# Altium footprint library footprints.PcbLib: 26 footprints (part 1 of 2)
Each footprint in its own frame and in the unit in brackets; x right, y up, seen from the top. Pads: shape width x height; smd on the part's side, far side on the other; paste and mask are expansions set on the pad; w line width, h text height; cw(c..) or ccw(c..) is an arc to the next point about the centre after c.
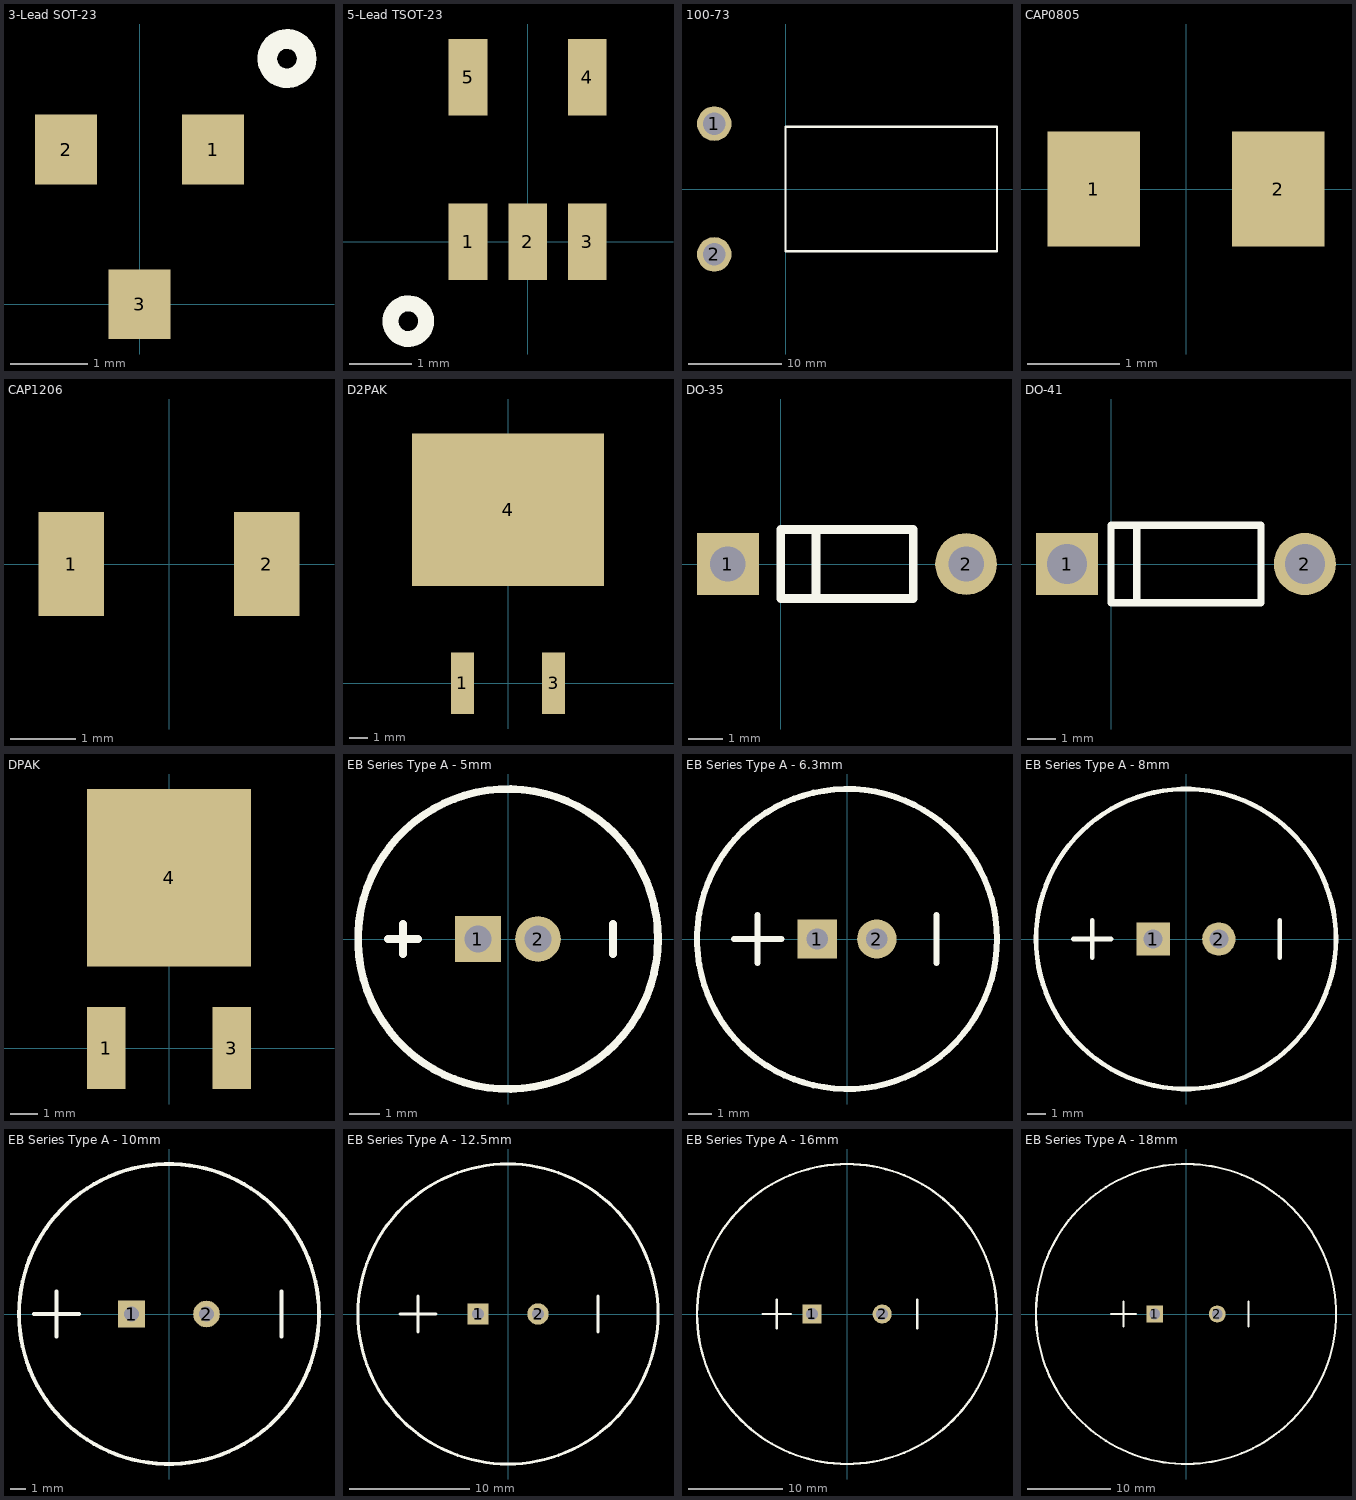
[diagram p0: the footprints below, top view; thin cyan lines are the x and y axes]

## 3-Lead SOT-23 [mm]
height 1.11
pads (3):
  rect 0.8x0.9 smd: 1(0.95,2) 2(-0.95,2) 3(0,0)
Top Overlay:
  circle w0.254: c1.905,3.175 r0.254

## 5-Lead TSOT-23 [mm]
height 0.9
pads (5):
  rect 0.62x1.22 smd: 1(-0.95,0) 2(0,0) 3(0.95,0) 4(0.95,2.62) 5(-0.95,2.62)
Top Overlay:
  circle w0.254: c-1.905,-1.27 r0.284

## 100-73 [mil] "SPST Switch"
height 1152
pads (2):
  round 145 hole 95: 1(-300,275) 2(-300,-275)
Top Overlay:
  lines w10: 0,-262 890,-262 890,262 0,262 0,-262

## CAP0805 [mm]
pads (2):
  rect 1x1.25 smd: 1(-1,0) 2(1,0)

## CAP1206 [mm]
pads (2):
  rect 1x1.6 smd: 1(-1.5,0) 2(1.5,0)

## D2PAK [mil] "TO-263"
height 190.16
pads (3):
  rect 50x135 smd: 1(-100,0) 3(100,0)
  rect 420x335 smd: 4(0,380)

## DO-35 [mil]
height 79
pads (2):
  rect 70x70 hole 40: 1(-60,0)
  round 70 hole 40: 2(210,0)
Top Overlay:
  lines w10: 40,-39 40,39 ; 0,-39 150,-39 150,39 0,39 0,-39

## DO-41 [mil]
pads (2):
  rect 85x85 hole 55: 1(-60,0)
  round 85 hole 55: 2(265,0)
Top Overlay:
  lines w10: 35,-53 35,53 ; 0,-53 0,53 205,53 205,-53 0,-53

## DPAK [mm] "TO-252 3L"
height 2.39
pads (3):
  rect 1.4x3 smd: 1(-2.3,0) 3(2.3,0)
  rect 6x6.5 smd: 4(0,6.25)

## EB Series Type A - 5mm [mil] "Radial Capacitor EB Series Type A, 5mm Body Diameter"
height 984.25
pads (2):
  rect 60x60 hole 35: 1(-39.37,0)
  round 60 hole 35: 2(39.37,0)
Top Overlay:
  circle w10: c0,0 r196.85
  lines w10: -157.48,0 -118.11,0 ; -137.8,-19.68 -137.8,19.68 ; 137.8,-19.68 137.8,19.68

## EB Series Type A - 6.3mm [mil] "Radial Capacitor EB Series Type A, 6.3mm Body Diameter"
height 984.25
pads (2):
  rect 65x65 hole 35: 1(-49.21,0)
  round 65 hole 35: 2(49.21,0)
Top Overlay:
  circle w10: c0,0 r248.03
  lines w10: -187.01,0 -108.27,0 ; -147.64,-39.37 -147.64,39.37 ; 147.64,-39.37 147.64,39.37

## EB Series Type A - 8mm [mil] "Radial Capacitor EB Series Type A, 8mm Body Diameter"
height 984.25
pads (2):
  rect 70x70 hole 40: 1(-68.9,0)
  round 70 hole 40: 2(68.9,0)
Top Overlay:
  circle w10: c0,0 r314.96
  lines w10: -236.22,0 -157.48,0 ; -196.85,-39.37 -196.85,39.37 ; 196.85,-39.37 196.85,39.37

## EB Series Type A - 10mm [mil] "Radial Capacitor EB Series Type A, 10mm Body Diameter"
height 984.25
pads (2):
  rect 70x70 hole 40: 1(-98.43,0)
  round 70 hole 40: 2(98.43,0)
Top Overlay:
  circle w10: c0,0 r393.7
  lines w10: -354.33,0 -236.22,0 ; -295.28,-59.06 -295.28,59.06 ; 295.28,-59.06 295.28,59.06

## EB Series Type A - 12.5mm [mil] "Radial Capacitor EB Series Type A, 12.5mm Body Diameter"
height 984.25
pads (2):
  rect 70x70 hole 40: 1(-98.43,0)
  round 70 hole 40: 2(98.43,0)
Top Overlay:
  circle w10: c0,0 r492.13
  lines w10: -354.33,0 -236.22,0 ; -295.28,-59.06 -295.28,59.06 ; 295.28,-59.06 295.28,59.06

## EB Series Type A - 16mm [mil] "Radial Capacitor EB Series Type A, 16mm Body Diameter"
height 984.25
pads (2):
  rect 80x80 hole 50: 1(-147.64,0)
  round 80 hole 50: 2(147.64,0)
Top Overlay:
  circle w10: c0,0 r629.92
  lines w10: -354.33,0 -236.22,0 ; -295.28,-59.06 -295.28,59.06 ; 295.28,-59.06 295.28,59.06

## EB Series Type A - 18mm [mil] "Radial Capacitor EB Series Type A, 18mm Body Diameter"
height 984.25
pads (2):
  rect 80x80 hole 50: 1(-147.64,0)
  round 80 hole 50: 2(147.64,0)
Top Overlay:
  circle w10: c0,0 r708.66
  lines w10: -354.33,0 -236.22,0 ; -295.28,-59.06 -295.28,59.06 ; 295.28,-59.06 295.28,59.06